# Altium schematic symbol library BatteryHolder.SchLib: 1 symbol
Pins are listed as number, name and electrical type; pins without a type are passive.

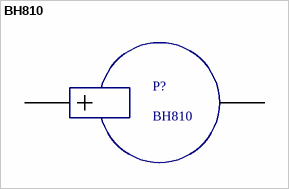
[diagram p0: symbol BH810]

## BH810
designator P?
footprint BH810 (Battery Holder)
pins: 1 BN, 2 BP